# EAGLE library part CNY17-3-300E (library CNY17-3-300E)
Optocoupler DC i/p Transistor o/p DIP6GW Avago CNY17-3-300E DC Input Transistor Output Optocoupler, Surface Mount, 6-Pin PDIP Source: Datasheet <https://componentsearchengine.com/Datasheets/2/CNY17-3-300E.pdf>
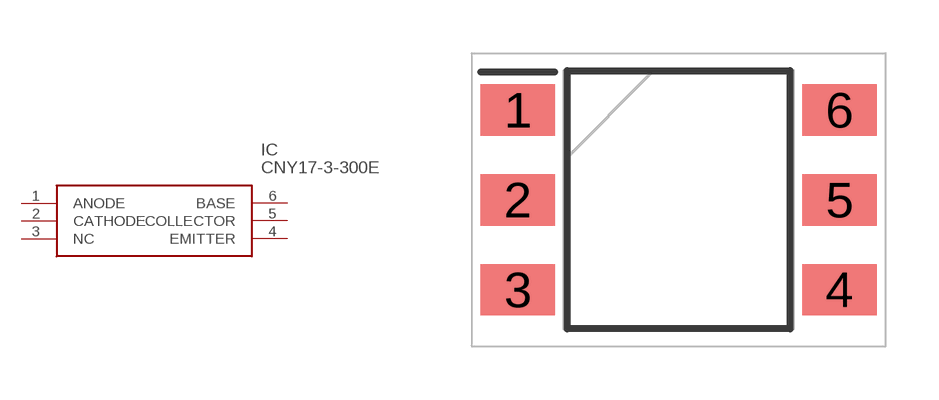
[diagram p0: symbol with the pads of SOP254P1016X460-6N; footprint SOP254P1016X460-6N]

Designator prefix IC

## CNY17-3-300E (Description: Optocoupler DC i/p Transistor o/p DIP6GW Avago CNY17-3-300E DC Input Transistor Output Optocoupler, Surface Mount, 6-Pin PDIP; Height: 4.6mm; Manufacturer_Name: Avago Technologies; Manufacturer_Part_Number: CNY17-3-300E; Mouser_Part_Number: 630-CNY17-3-300E; Mouser_Price-Stock: https://www.mouser.com/Search/Refine.aspx?Keyword=630-CNY17-3-300E)  [SOP254P1016X460-6N]
1  ANODE
2  CATHODE
3  NC  nc
4  EMITTER
5  COLLECTOR
6  BASE

## Footprint SOP254P1016X460-6N (pad centres in mm)
CNY17-3-300E
smd 2.1 x 1.45: 1 -4.55,2.54; 2 -4.55,0; 3 -4.55,-2.54; 4 4.55,-2.54; 5 4.55,0; 6 4.55,2.54